# Altium footprint library common-components.PcbLib: 43 footprints (part 3 of 3)
Each footprint in its own frame and in the unit in brackets; x right, y up, seen from the top. Pads: shape width x height; smd on the part's side, far side on the other; paste and mask are expansions set on the pad; w line width, h text height; cw(c..) or ccw(c..) is an arc to the next point about the centre after c.
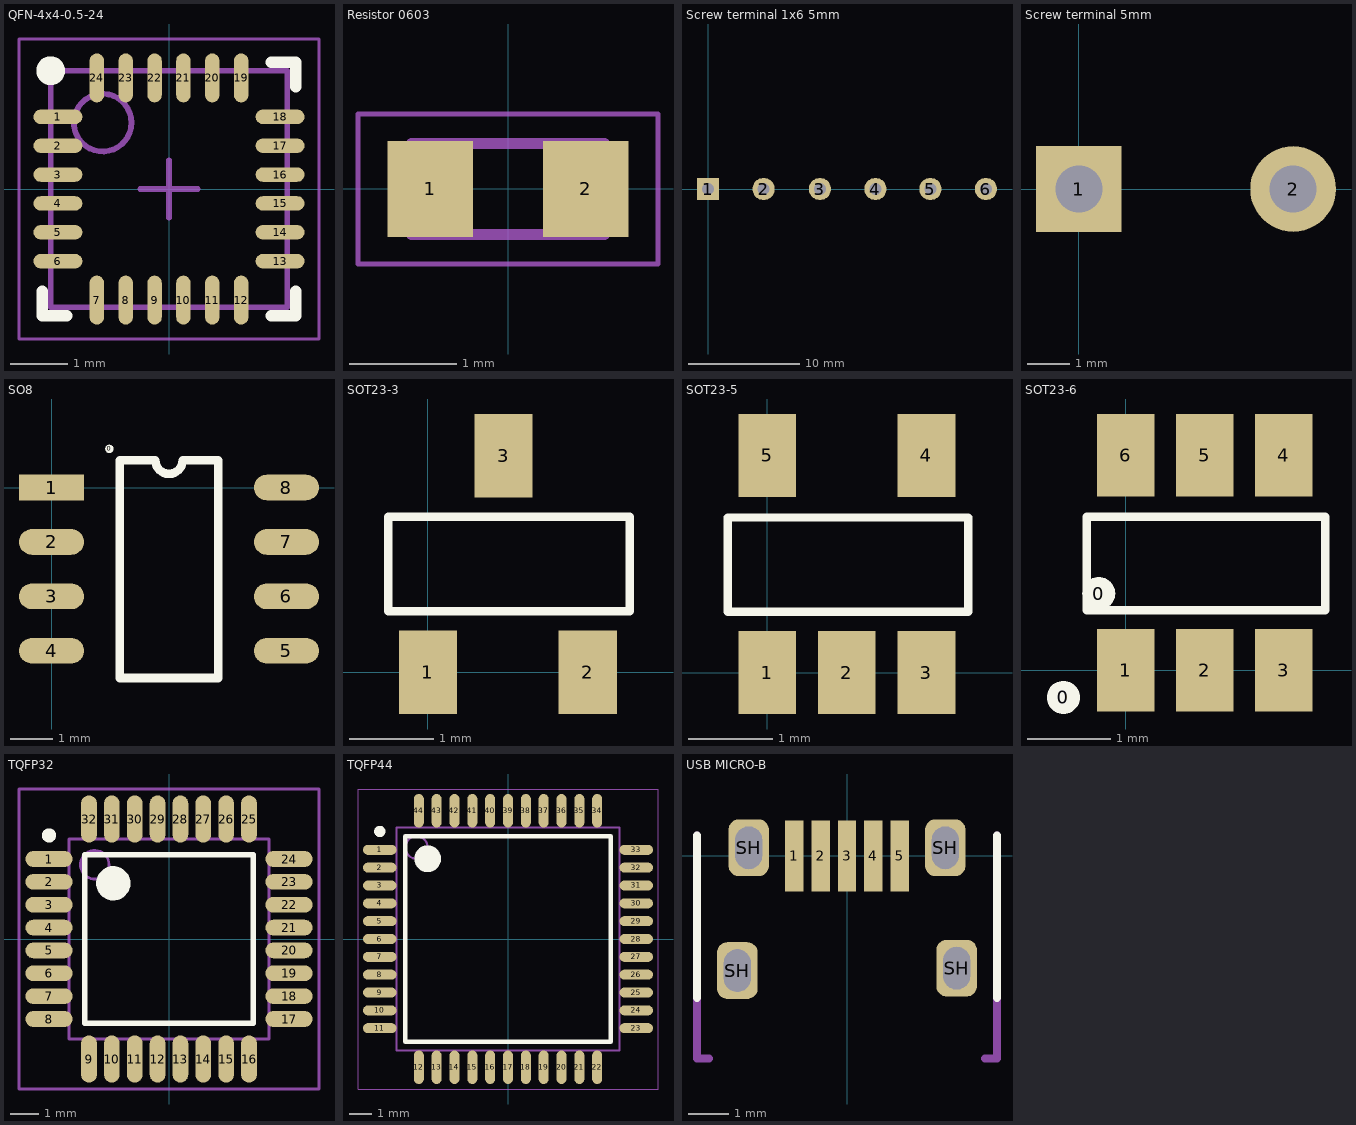
[diagram p2: the footprints below, top view; thin cyan lines are the x and y axes]

## QFN-4x4-0.5-24 [mm] "QFN, 24-Leads, Body 4,00x4,00mm, Pitch 0,50mm, IPC Medium Density"
height 0.95
pads (24):
  oval 0.85x0.25 smd: 1(-1.925,1.25) 2(-1.925,0.75) 3(-1.925,0.25) 4(-1.925,-0.25) 5(-1.925,-0.75) 6(-1.925,-1.25) 13(1.925,-1.25) 14(1.925,-0.75) 15(1.925,-0.25) 16(1.925,0.25) 17(1.925,0.75) 18(1.925,1.25)
  oval 0.25x0.85 smd: 7(-1.25,-1.925) 8(-0.75,-1.925) 9(-0.25,-1.925) 10(0.25,-1.925) 11(0.75,-1.925) 12(1.25,-1.925) 19(1.25,1.925) 20(0.75,1.925) 21(0.25,1.925) 22(-0.25,1.925) 23(-0.75,1.925) 24(-1.25,1.925)
Top Overlay:
  circle w0.25: c-2.05,2.05 r0.125
  lines w0.2: -2.2,-1.775 -2.2,-2.2 -1.775,-2.2 ; 1.775,-2.2 2.2,-2.2 2.2,-1.775 ; 1.775,2.2 2.2,2.2 2.2,1.775
Mechanical 13:
  circle w0.1: c-1.15,1.15 r0.5
  lines w0.1: -2.05,-2.05 2.05,-2.05 2.05,2.05 -2.05,2.05 -2.05,-2.05
Mechanical 15:
  lines w0.05: -2.6,-2.6 2.6,-2.6 2.6,2.6 -2.6,2.6 -2.6,-2.6
  lines w0.1: -0.5,0 0.5,0 ; 0,-0.5 0,0.5
3D body: height 0.9, standoff 0, extent -2.002,-2.002 2.002,2.002

## Resistor 0603 [mm] "Chip resistor 0603 (1608)"
height 0.5
pads (2):
  rect 0.8x0.9 smd: 1(-0.725,0) 2(0.725,0)
Mechanical 13:
  lines w0.1: -0.9,-0.425 -0.9,0.425 0.9,0.425 0.9,-0.425 -0.9,-0.425
Mechanical 15:
  lines w0.05: -1.4,-0.7 -1.4,0.7 1.4,0.7 1.4,-0.7 -1.4,-0.7
  text ".Designator" at -1.025,-0.025 h0.2
3D body: height 0.5, standoff 0, extent -0.8,-0.4 0.8,0.4

## Screw terminal 1x6 5mm [mm]
pads (6):
  rect 2x2 hole 1.1: 1(0,0)
  round 2 hole 1.1: 2(5,0) 3(10.075,0) 4(15.075,0) 5(20.025,0) 6(25.025,0)
Mechanical 15:
  text ".Designator" at 8.45,-3.275 h0.8
3D body: height 14.2, standoff -3.5, extent -3.025,-4.8 7.575,5.5
3D body: height 14.2, standoff -3.5, extent 6.975,-4.8 17.575,5.5
3D body: height 14.2, standoff -3.5, extent 16.975,-4.8 27.575,5.5

## Screw terminal 5mm [mm]
pads (2):
  rect 2x2 hole 1.1: 1(0,0)
  round 2 hole 1.1: 2(5,0)
Mechanical 15:
  text ".Designator" at -1.875,-3.175 h0.8
3D body: height 14.2, standoff -3.5, extent -3.025,-4.8 7.575,5.5

## SO8 [mm]
height 1
pads (9):
  round 0.2 on Top Overlay: 0(1.35,0.9)
  rect 1.52x0.6 smd: 1(0,0)
  oval 1.52x0.6 smd: 2(0,-1.27) 3(0,-2.54) 4(0,-3.81) 5(5.48,-3.81) 6(5.48,-2.54) 7(5.48,-1.27) 8(5.48,0)
Top Overlay:
  lines w0.2: 1.595,-4.445 3.885,-4.445 3.885,0.635 3.057,0.635 cw(c2.74,0.635) 2.422,0.635 1.595,0.635 1.595,-4.445
Mechanical 15:
  text ".Designator" at 2.575,-0.125 h0.3
3D body: height 1.78, standoff 0.01, extent -0.318,-4.345 5.819,0.545

## SOT23-3 [mm] "SOT23-3"
height 1
pads (3):
  rect 0.69x0.99 smd: 1(0,0) 2(1.9,0) 3(0.9,2.575)
Top Overlay:
  lines w0.1: -0.47,0.725 -0.47,1.85 2.4,1.85 2.4,0.725 -0.47,0.725
Mechanical 15:
  text ".Designator" at -0.5,1.05 h0.3
3D body: height 1.1, standoff 0, extent -0.55,0.05 2.45,2.592

## SOT23-5 [mm] "SOT23-5"
height 1
pads (5):
  rect 0.69x0.99 smd: 1(0,0) 2(0.95,0) 3(1.9,0) 4(1.9,2.59) 5(0,2.59)
Top Overlay:
  lines w0.1: -0.47,0.725 -0.47,1.85 2.4,1.85 2.4,0.725 -0.47,0.725
Mechanical 15:
  text ".Designator" at -0.5,1.05 h0.3
3D body: height 1.45, standoff 0, extent -0.53,-0.24 2.47,2.821

## SOT23-6 [mm] "SOT23-6"
height 3
pads (8):
  round 0.4 on Top Overlay: 0(-0.75,-0.325) 0(-0.325,0.925)
  rect 0.69x0.99 smd: 1(0,0) 2(0.95,0) 3(1.9,0) 4(1.9,2.59) 5(0.95,2.59) 6(0,2.59)
Top Overlay:
  lines w0.1: -0.47,0.725 2.4,0.725 2.4,1.85 -0.47,1.85 -0.47,0.725
Mechanical 15:
  text ".Designator" at -0.325,1.3 h0.3
3D body: height 1.3, standoff -0.1, extent -0.548,-0.2 2.5,2.8

## TQFP32 [mm] "Thin QFP, 32-Leads, Body 7x7mm, Pitch 0.8mm, IPC Medium Density"
height 1.2
pads (32):
  oval 1.65x0.55 smd: 1(-4.2,2.8) 2(-4.2,2) 3(-4.2,1.2) 4(-4.2,0.4) 5(-4.2,-0.4) 6(-4.2,-1.2) 7(-4.2,-2) 8(-4.2,-2.8) 17(4.2,-2.8) 18(4.2,-2) 19(4.2,-1.2) 20(4.2,-0.4) 21(4.2,0.4) 22(4.2,1.2) 23(4.2,2) 24(4.2,2.8)
  oval 0.55x1.65 smd: 9(-2.8,-4.2) 10(-2,-4.2) 11(-1.2,-4.2) 12(-0.4,-4.2) 13(0.4,-4.2) 14(1.2,-4.2) 15(2,-4.2) 16(2.8,-4.2) 25(2.8,4.2) 26(2,4.2) 27(1.2,4.2) 28(0.4,4.2) 29(-0.4,4.2) 30(-1.2,4.2) 31(-2,4.2) 32(-2.8,4.2)
Top Overlay:
  circle w0.6: c-1.95,1.95 r0.3
  circle w0.25: c-4.2,3.625 r0.125
  lines w0.2: -2.95,-2.95 2.95,-2.95 2.95,2.95 -2.95,2.95 -2.95,-2.95
Mechanical 13:
  circle w0.1: c-2.6,2.6 r0.5
  lines w0.1: -3.5,-3.5 3.5,-3.5 3.5,3.5 -3.5,3.5 -3.5,-3.5
Mechanical 15:
  lines w0.1: -5.25,-5.25 5.25,-5.25 5.25,5.25 -5.25,5.25 -5.25,-5.25
  text ".Designator" at -2.6,0.275 h0.5
3D body: height 1.15, standoff -0.05, extent -4.506,-4.506 4.506,4.506

## TQFP44 [mm] "TQFP, 44-Leads, Body 10,00x10,00mm, Pitch 0,80mm"
height 1.2
pads (44):
  oval 1.5x0.45 smd: 1(-5.75,4) 2(-5.75,3.2) 3(-5.75,2.4) 4(-5.75,1.6) 5(-5.75,0.8) 6(-5.75,0) 7(-5.75,-0.8) 8(-5.75,-1.6) 9(-5.75,-2.4) 10(-5.75,-3.2) 11(-5.75,-4) 23(5.75,-4) 24(5.75,-3.2) 25(5.75,-2.4) 26(5.75,-1.6) 27(5.75,-0.8) 28(5.75,0) 29(5.75,0.8) 30(5.75,1.6) 31(5.75,2.4) 32(5.75,3.2) 33(5.75,4)
  oval 0.45x1.5 smd: 12(-4,-5.75) 13(-3.2,-5.75) 14(-2.4,-5.75) 15(-1.6,-5.75) 16(-0.8,-5.75) 17(0,-5.75) 18(0.8,-5.75) 19(1.6,-5.75) 20(2.4,-5.75) 21(3.2,-5.75) 22(4,-5.75) 34(4,5.75) 35(3.2,5.75) 36(2.4,5.75) 37(1.6,5.75) 38(0.8,5.75) 39(0,5.75) 40(-0.8,5.75) 41(-1.6,5.75) 42(-2.4,5.75) 43(-3.2,5.75) 44(-4,5.75)
Top Overlay:
  circle w0.25: c-5.75,4.825 r0.125
  circle w0.6: c-3.6,3.6 r0.3
  lines w0.2: -4.6,-4.6 -4.6,4.6 4.6,4.6 4.6,-4.6 -4.6,-4.6
Mechanical 13:
  circle w0.1: c-4.1,4.1 r0.5
  lines w0.1: -5,-5 -5,5 5,5 5,-5 -5,-5
Mechanical 15:
  lines w0.05: -6.725,-6.725 -6.725,6.725 6.725,6.725 6.725,-6.725 -6.725,-6.725
  text ".Designator" at -3.225,1.275 h0.7
3D body: height 1, standoff -0.15, extent -6.012,-6.012 6.012,6.012

## USB MICRO-B [mm] "FCI 10103594-0001LF"
height 3
pads (9):
  rect 0.45x1.75 smd: 1(-1.3,0) 2(-0.65,0) 3(0,0) 4(0.65,0) 5(1.3,0)
  rrect50% 1x1.4 hole 0.66 slot 1.05 at 90 deg: SH(-2.705,-2.83) SH(-2.425,0.2) SH(2.425,0.2) SH(2.705,-2.77)
Top Overlay:
  lines w0.2: -3.7,-3.5 -3.7,0.5 ; 3.7,-3.5 3.7,0.5
Mechanical 13:
  lines w0.2: -3.7,0.5 -3.7,-5 -3.4,-5 ; 3.4,-5 3.7,-5 3.7,0.5
Mechanical 15:
  text ".Designator" at -3.55,-4.65 h0.7
3D body: height 2.89, standoff -0.71, extent -4.02,-5.6 4.02,0.433